# EAGLE library part TDA8560Q (library #Ostatni)
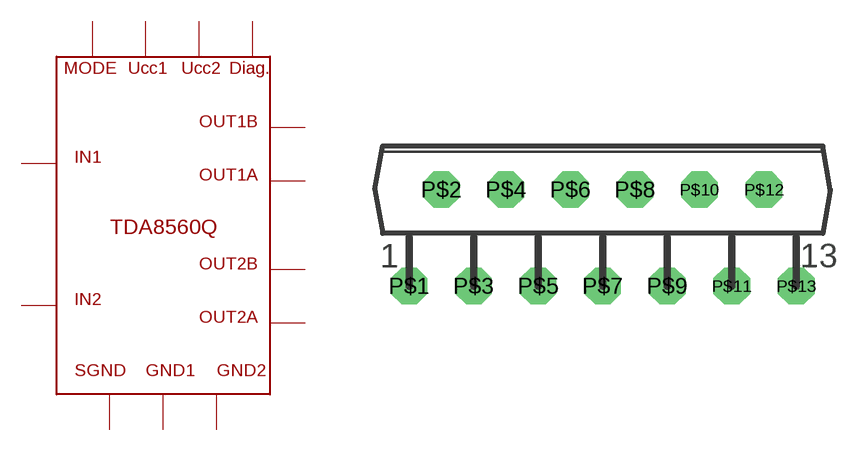
[diagram p0: symbol with the pads of TDA8560Q; footprint TDA8560Q]

Designator prefix IO

## TDA8560QTDA8560Q  [TDA8560Q]
P$1  P$1  pas
P$2  P$2  pas
P$3  P$3  pas
P$4  P$4  pas
P$5  P$5  pas
P$6  P$6  pas
P$7  P$7  pas
P$8  P$8  pas
P$9  P$9  pas
P$10  P$10  pas
P$11  P$11  pas
P$12  P$12  pas
P$13  P$13  pas

## Footprint TDA8560Q (pad centres in mm)
drill 0.8 pad 1.93 octagon: P$1 -10.2,-5.08; P$2 -8.5,0; P$3 -6.8,-5.08; P$4 -5.1,0; P$5 -3.4,-5.08; P$6 -1.7,0; P$7 0,-5.08; P$8 1.7,0; P$9 3.4,-5.08; P$10 5.1,0; P$11 6.8,-5.08; P$12 8.5,0; P$13 10.2,-5.08